# Altium footprint library PCB - RESISTOR - SHUNT - 2512.PcbLib: 1 footprints
Each footprint in its own frame and in the unit in brackets; x right, y up, seen from the top. Pads: shape width x height; smd on the part's side, far side on the other; paste and mask are expansions set on the pad; w line width, h text height; cw(c..) or ccw(c..) is an arc to the next point about the centre after c.
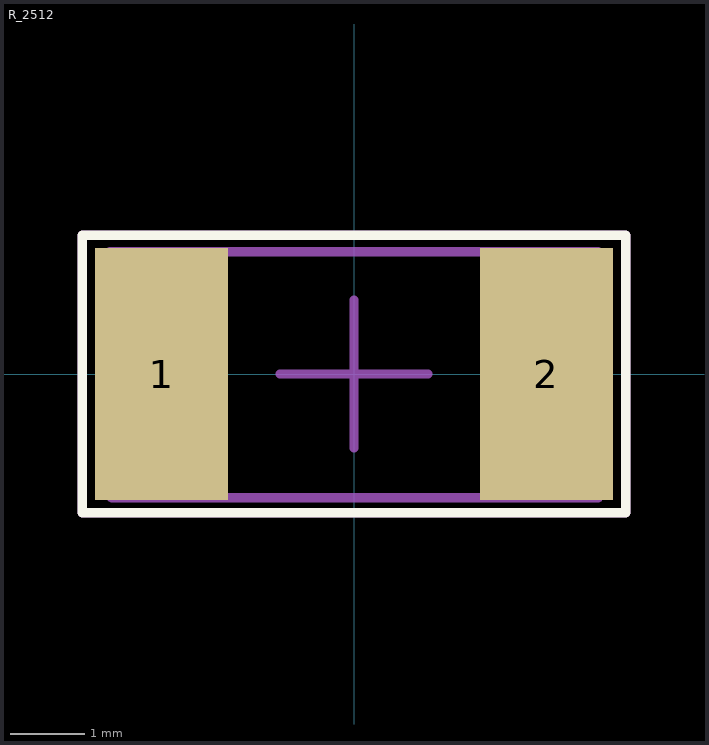
[diagram p0: the footprint, top view; thin cyan lines are the x and y axes]

## R_2512 [mm]
pads (2):
  rect 1.8x3.4 smd: 1(-2.6,0) 2(2.6,0)
Top Overlay:
  lines w0.127: -3.675,-1.875 -3.675,1.875 3.675,1.875 3.675,-1.875 -3.675,-1.875
Top Assembly:
  lines w0.127: -3.3,-1.65 -3.3,1.65 3.3,1.65 3.3,-1.675 ; -3.275,-1.675 3.3,-1.675 ; 3.3,-1.675 3.3,-1.675
Top Courtyard:
  lines w0.127: -3.675,-1.875 -3.675,1.875 3.675,1.875 3.675,-1.875 -3.675,-1.875
Top Designator:
  text ".Designator" at -3.746,4.762 h1.52
Top Component Center:
  lines w0.127: 0,-1 0,1 0,0 -1,0 1,0
Top Value (Mech13):
  text "1mR" at -3.746,2.254 h1.52
3D body "RES_1L00x_BRN.step": height 0.86, standoff 0, extent -3.213,-1.613 3.263,1.613